# EAGLE library part DS28E17 (library DS28E17)
1-Wire®-to-I2C Master Bridge Datasheet: https://datasheets.maximintegrated.com/en/ds/DS28E17.pdf
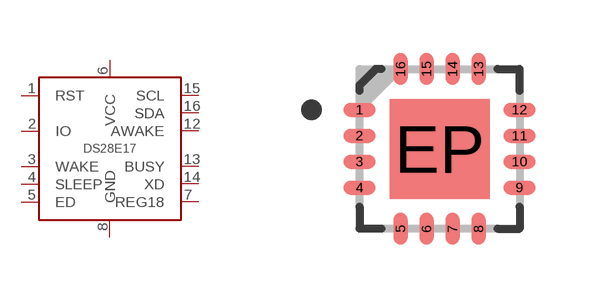
[diagram p0: symbol with the pads of TQFN-16_4X4; footprint TQFN-16_4X4]

Designator prefix -

## DS28E17  [TQFN-16_4X4]
1  RST
2  IO
3  WAKE
4  SLEEP
5  ED
6  VCC  pwr
7  REG18
8  GND  pwr
12  AWAKE
13  BUSY
14  XD
15  SCL
16  SDA

## Footprint TQFN-16_4X4 (pad centres in mm)
smd 0.8 x 0.35: 1 -2,0.975; 2 -2,0.325; 3 -2,-0.325; 4 -2,-0.975; 9 2,-0.975; 10 2,-0.325; 11 2,0.325; 12 2,0.975
smd 0.35 x 0.8: 5 -0.975,-2; 6 -0.325,-2; 7 0.325,-2; 8 0.975,-2; 13 0.975,2; 14 0.325,2; 15 -0.325,2; 16 -0.975,2
smd 2.5 x 2.5: EP 0,0